# Altium footprint library XFL3012.PcbLib: 1 footprints
Each footprint in its own frame and in the unit in brackets; x right, y up, seen from the top. Pads: shape width x height; smd on the part's side, far side on the other; paste and mask are expansions set on the pad; w line width, h text height; cw(c..) or ccw(c..) is an arc to the next point about the centre after c.
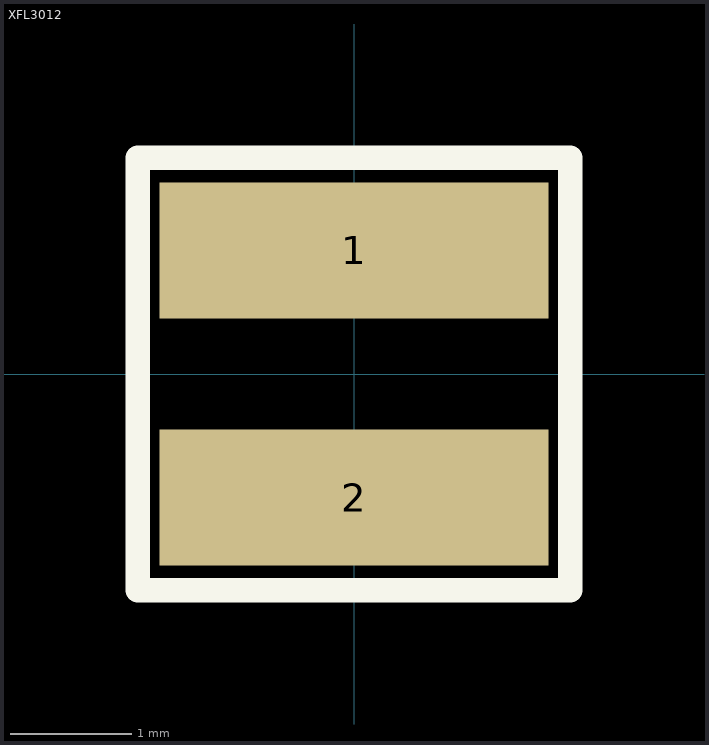
[diagram p0: the footprint, top view; thin cyan lines are the x and y axes]

## XFL3012 [mil]
pads (2):
  rect 126x44 smd: 1(0,40) 2(0,-40)
Top Overlay:
  lines w8: -70,-70 -70,70 70,70 70,-70 -70,-70
3D body: height 53.21, standoff 2.03, extent -63,-63 62.99,62.99